# Altium footprint library PBD-50.PcbLib: 1 footprints
Each footprint in its own frame and in the unit in brackets; x right, y up, seen from the top. Pads: shape width x height; smd on the part's side, far side on the other; paste and mask are expansions set on the pad; w line width, h text height; cw(c..) or ccw(c..) is an arc to the next point about the centre after c.
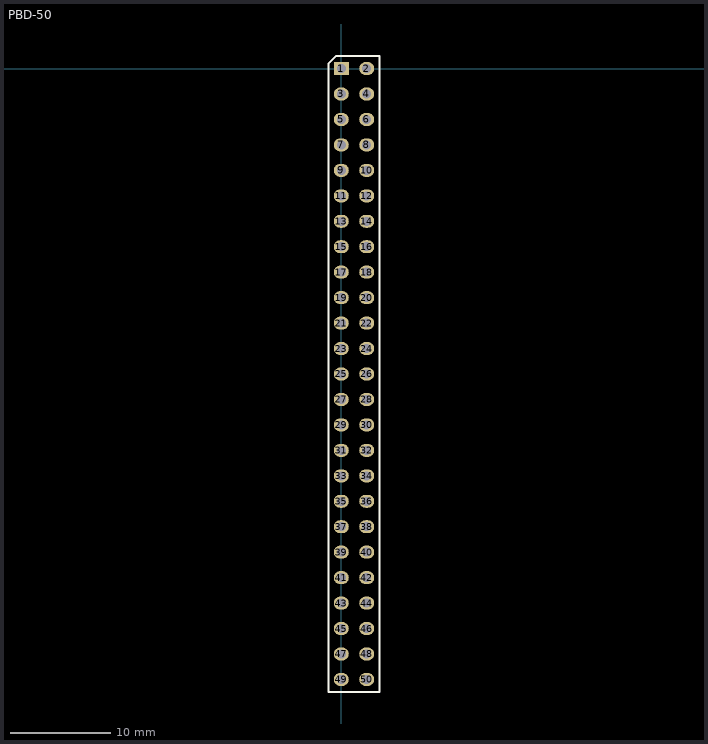
[diagram p0: the footprint, top view; thin cyan lines are the x and y axes]

## PBD-50 [mm]
pads (50):
  rect 1.5x1.3 hole 0.9: 1(0,0)
  oval 1.5x1.3 hole 0.9: 2(2.54,0) 3(0,-2.54) 4(2.54,-2.54) 5(0,-5.08) 6(2.54,-5.08) 7(0,-7.62) 8(2.54,-7.62) 9(0,-10.16) 10(2.54,-10.16) 11(0,-12.7) 12(2.54,-12.7) 13(0,-15.24) 14(2.54,-15.24) 15(0,-17.78) 16(2.54,-17.78) 17(0,-20.32) 18(2.54,-20.32) 19(0,-22.86) 20(2.54,-22.86) 21(0,-25.4) 22(2.54,-25.4) 23(0,-27.94) 24(2.54,-27.94) 25(0,-30.48) 26(2.54,-30.48) 27(0,-33.02) 28(2.54,-33.02) 29(0,-35.56) 30(2.54,-35.56) 31(0,-38.1) 32(2.54,-38.1) 33(0,-40.64) 34(2.54,-40.64) 35(0,-43.18) 36(2.54,-43.18) 37(0,-45.72) 38(2.54,-45.72) 39(0,-48.26) 40(2.54,-48.26) 41(0,-50.8) 42(2.54,-50.8) 43(0,-53.34) 44(2.54,-53.34) 45(0,-55.88) 46(2.54,-55.88) 47(0,-58.42) 48(2.54,-58.42) 49(0,-60.96) 50(2.54,-60.96)
Top Overlay:
  lines w0.2: -1.27,-62.23 3.81,-62.23 3.81,1.27 0.635,1.27 -0.508,1.27 -1.27,0.508 -1.27,-62.23
3D body "User Library-PBD2_54-10.step": height 8.4, standoff -2.7, extent -1.27,-11.43 3.81,1.27
3D body "User Library-PBD2_54-10.step": height 8.4, standoff -2.7, extent -1.27,-24.13 3.81,-11.43
3D body "User Library-PBD2_54-10.step": height 8.4, standoff -2.7, extent -1.27,-36.83 3.81,-24.13
3D body "User Library-PBD2_54-10.step": height 8.4, standoff -2.7, extent -1.27,-49.53 3.81,-36.83
3D body "User Library-PBD2_54-10.step": height 8.4, standoff -2.7, extent -1.27,-62.23 3.81,-49.53